# Altium footprint library 贴片电阻.PcbLib: 20 footprints (part 1 of 2)
Each footprint in its own frame and in the unit in brackets; x right, y up, seen from the top. Pads: shape width x height; smd on the part's side, far side on the other; paste and mask are expansions set on the pad; w line width, h text height; cw(c..) or ccw(c..) is an arc to the next point about the centre after c.
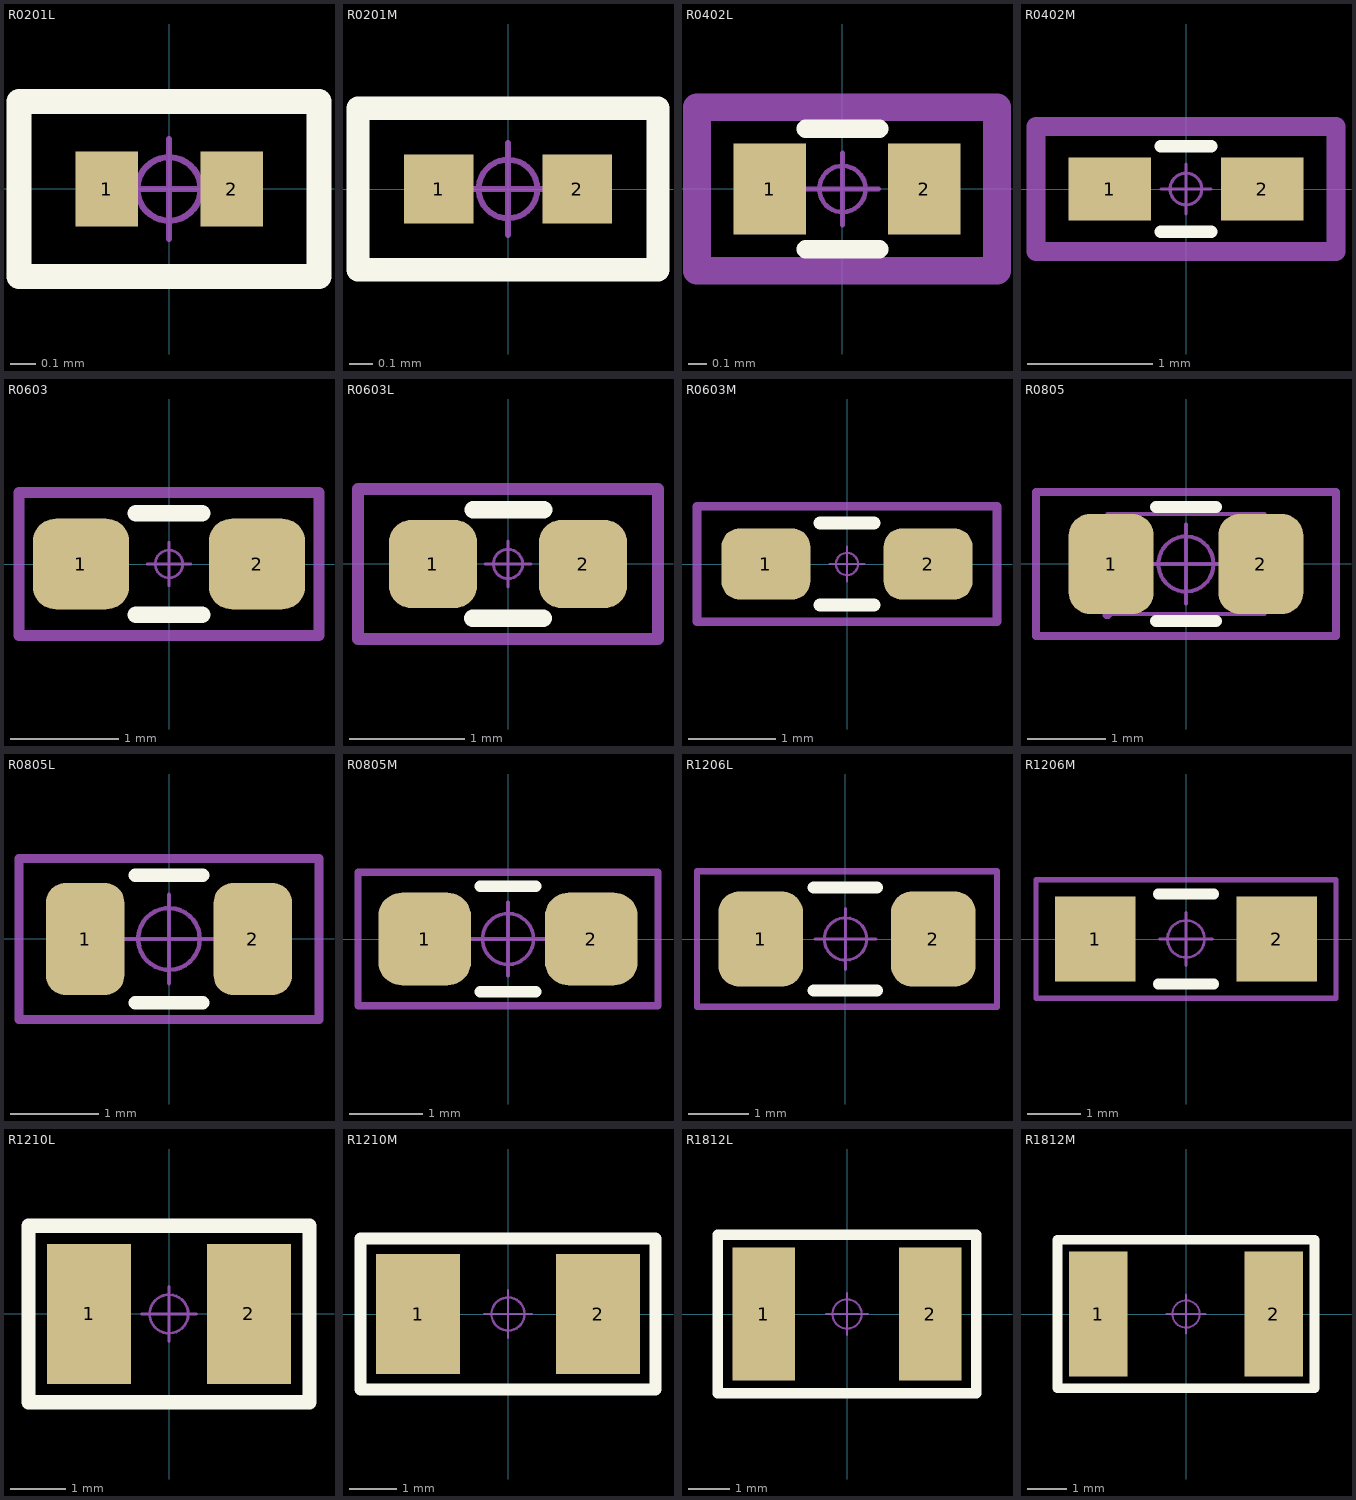
[diagram p0: the footprints below, top view; thin cyan lines are the x and y axes]

## R0201L [mm] "1/20W贴片电阻"
pads (2):
  rect 0.25x0.3 smd: 1(-0.25,0) 2(0.25,0)
Top Overlay:
  lines w0.102: -0.6,-0.35 0.6,-0.35 0.6,0.35 -0.6,0.35 -0.6,-0.35
Mechanical 15:
  circle w0.025: c0,0 r0.127
  lines w0.025: -0.2,0 0.2,0 ; 0,-0.2 0,0.2
3D body "R 0201.STEP": height 0.23, standoff 0, extent -0.3,-0.15 0.3,0.15

## R0201M [mm] "1/20W贴片电阻"
pads (2):
  rect 0.3x0.3 smd: 1(-0.3,0) 2(0.3,0)
Top Overlay:
  lines w0.102: -0.65,-0.35 0.65,-0.35 0.65,0.35 -0.65,0.35 -0.65,-0.35
Mechanical 15:
  circle w0.025: c0,0 r0.127
  lines w0.025: -0.2,0 0.2,0 ; 0,-0.2 0,0.2
3D body "R 0201.STEP": height 0.23, standoff 0, extent -0.3,-0.15 0.3,0.15

## R0402L [mm] "1/16W贴片电阻"
pads (2):
  rect 0.4x0.5 smd: 1(-0.4,0) 2(0.45,0)
Top Overlay:
  lines w0.102: -0.203,-0.33 0.203,-0.33 ; -0.203,0.33 0.203,0.33
Mechanical 6:
  lines w0.152: -0.8,-0.45 0.85,-0.45 0.85,0.45 -0.8,0.45 -0.8,-0.45
Mechanical 15:
  circle w0.025: c0,0 r0.127
  lines w0.025: -0.2,0 0.2,0 ; 0,-0.2 0,0.2
3D body "R 0402.STEP": height 0.3, standoff 0, extent -0.5,-0.25 0.5,0.25

## R0402M [mil] "1/16W贴片电阻"
pads (2):
  rect 26x20 smd: 1(-24,0) 2(24,0)
Top Overlay:
  lines w4: -8,-13.46 8,-13.46 ; -8,13.46 8,13.46
Mechanical 14:
  lines w6: -47.24,-19.68 47.24,-19.68 47.24,19.68 -47.24,19.68 -47.24,-19.68
Mechanical 15:
  circle w1: c0,0 r5
  lines w1: -7.87,0 7.87,0 ; 0,-7.87 0,7.87
3D body "R 0402.STEP": height 11.85, standoff -0.09, extent -19.68,-9.84 19.69,9.85

## R0603 [mil] "1/10W贴片电阻"
pads (2):
  rrect50% 35x33 smd: 1(-32,0) 2(32,0)
Top Overlay:
  lines w6: -12,-18.46 12,-18.46 ; -12,18.46 12,18.46
Mechanical 14:
  lines w4: -54.53,-26.01 -54.53,26.01 -16.78,26.01 16.78,26.01 54.53,26.01 54.53,-26.01 16.78,-26.01 -16.78,-26.01 -54.53,-26.01
Mechanical 15:
  circle w1: c0,0 r5
  lines w1: -7.87,0 7.87,0 ; 0,-7.87 0,7.87
3D body "R 0603.STEP": height 15.79, standoff -0.13, extent -31.49,-15.74 31.5,15.75

## R0603L [mil] "1/10W贴片电阻"
pads (2):
  rrect50% 30x30 smd: 1(-25.59,0) 2(25.59,0)
Top Overlay:
  lines w6: -12,-18.46 12,-18.46 ; -11.86,18.51 12.14,18.51
Mechanical 14:
  lines w4: -51.18,-25.59 -51.18,25.59 51.18,25.59 51.18,-25.59 -51.18,-25.59
Mechanical 15:
  circle w1: c0,0 r5
  lines w1: -7.87,0 7.87,0 ; 0,-7.87 0,7.87
3D body "R 0603.STEP": height 15.79, standoff -0.13, extent -31.49,-15.74 31.5,15.75

## R0603M [mil] "1/10W贴片电阻"
pads (2):
  rrect50% 40x32 smd: 1(-36.5,0) 2(36.5,0)
Top Overlay:
  lines w6: -12,-18.46 12,-18.46 ; -12,18.46 12,18.46
Mechanical 14:
  lines w4: -67.5,-26 -67.5,26 67.5,26 67.5,-26 -67.5,-26
Mechanical 15:
  circle w1: c0,0 r5
  lines w1: -7.87,0 7.87,0 ; 0,-7.87 0,7.87
3D body "R 0603.STEP": height 15.79, standoff -0.13, extent -31.49,-15.74 31.5,15.75

## R0805 [mil] "125mW贴片电阻"
pads (2):
  rrect50% 42.5x50 smd: 1(-37.4,0) 2(37.4,0)
Top Overlay:
  lines w6: -15,-28.46 15,-28.46 ; -15,28.46 15,28.46
Mechanical 14:
  lines w4: -66.93,-36 66.93,-36 ; -66.93,36 66.93,36 ; -75,-36 -75,36 75,36 75,-36 -75,-36
Mechanical 15:
  circle w1.97: c0,0 r13.78
  circle w1.97: c0,0 r13.78
  region: -37.01,-25.1 -37.05,-24.15 -38.42,-22.85 -40.31,-22.85 -41.68,-24.16 -41.73,-25.1 -41.68,-26.05 -40.31,-27.35 -38.42,-27.35 -37.05,-26.05
  region: 39.37,-25.1 39.37,25.1 23.62,25.1 23.62,-25.1
  region: -39.37,-25.1 -39.37,25.1 -23.62,25.1 -23.62,-25.1
  lines w1.97: -19.68,0 19.68,0 -19.68,0 ; 0,-19.68 0,19.68 0,-19.68
  lines w2: -39.37,-25.1 39.37,-25.1 39.37,25.1 -39.37,25.1 -39.37,-25.1
3D body "R 0805.STEP": height 19.72, standoff -0.24, extent -39.37,-24.6 39.37,24.61
3D body "R 0805.STEP": height 19.72, standoff -0.24, extent -39.37,-24.6 39.37,24.61

## R0805L [mil] "125mW贴片电阻"
pads (2):
  rrect50% 35x50 smd: 1(-37.4,0) 2(37.4,0)
Top Overlay:
  lines w6: -15,-28.46 15,-28.46 ; -15,28.46 15,28.46
Mechanical 14:
  lines w4: -66.93,-36 -66.93,36 66.93,36 66.93,-36 -66.93,-36
Mechanical 15:
  circle w1.97: c0,0 r13.78
  lines w1.97: -19.68,0 19.68,0 ; 0,-19.68 0,19.68
3D body "R 0805.STEP": height 19.72, standoff -0.24, extent -39.37,-24.6 39.37,24.61

## R0805M [mil] "125mW贴片电阻"
pads (2):
  rrect50% 50x50 smd: 1(-45,0) 2(45,0)
Top Overlay:
  lines w6: -15,-28.46 15,-28.46 ; -15,28.46 15,28.46
Mechanical 14:
  lines w4: -81,-36 -81,36 81,36 81,-36 -81,-36
Mechanical 15:
  circle w1.97: c0,0 r13.78
  lines w1.97: -19.68,0 19.68,0 ; 0,-19.68 0,19.68
3D body "R 0805.STEP": height 19.72, standoff -0.24, extent -39.37,-24.6 39.37,24.61

## R1206L [mil] "1/4W贴片电阻"
pads (2):
  rrect50% 55x62 smd: 1(-55.12,0) 2(57.09,0)
Top Overlay:
  lines w7.87: -20.59,-33.46 20.59,-33.46 ; -20.59,33.46 20.59,33.46
Mechanical 14:
  lines w4: -96.46,-44 98.43,-44 98.43,44 -96.46,44 -96.46,-44
Mechanical 15:
  circle w1.97: c0,0 r13.78
  lines w1.97: -19.68,0 19.68,0 ; 0,-19.68 0,19.68
3D body "R 1206.STEP": height 21.69, standoff -0.24, extent -62.99,-31.49 63,31.5

## R1206M [mil] "1/4W贴片电阻"
pads (2):
  rect 60x62.99 smd: 1(-67.5,0) 2(67.5,0)
Top Overlay:
  lines w7.87: -20.59,-33.46 20.59,-33.46 ; -20.59,33.46 20.59,33.46
Mechanical 14:
  lines w4: -111.5,-44 111.5,-44 111.5,44 -111.5,44 -111.5,-44
Mechanical 15:
  circle w1.97: c0,0 r13.78
  lines w1.97: -19.68,0 19.68,0 ; 0,-19.68 0,19.68
3D body "R 1206.STEP": height 21.69, standoff -0.24, extent -62.99,-31.49 63,31.5

## R1210L [mil] "1/3W贴片电阻"
pads (2):
  rect 60x100 smd: 1(-57.09,0) 2(57.09,0)
Top Overlay:
  lines w10: -100.39,-63 -100.39,63 100.39,63 100.39,-63 -100.39,-63
Mechanical 15:
  circle w1.97: c0,0 r13.78
  lines w1.97: -19.68,0 19.68,0 ; 0,-19.68 0,19.68
3D body "R 1210.STEP": height 21.69, standoff -0.32, extent -62.99,-49.2 63,49.22

## R1210M [mil] "1/3W贴片电阻"
pads (2):
  rect 70x100 smd: 1(-75,0) 2(75,0)
Top Overlay:
  lines w10: -123,-63 -123,63 123,63 123,-63 -123,-63
Mechanical 15:
  circle w1.97: c0,0 r13.78
  lines w1.97: -19.68,0 19.68,0 ; 0,-19.68 0,19.68
3D body "R 1210.STEP": height 21.69, standoff -0.32, extent -62.99,-49.2 63,49.22

## R1812L [mm] "1/2W贴片电阻"
pads (2):
  rect 1.5x3.2 smd: 1(-2,0) 2(2,0)
Top Overlay:
  lines w0.254: -1.27,1.905 1.016,1.905 3.1,1.905 3.1,-1.905 1.016,-1.905 -1.016,-1.905 -3.1,-1.905 -3.1,1.905 -1.016,1.905
Mechanical 15:
  circle w0.05: c0,0 r0.35
  lines w0.05: -0.5,0 0.5,0 ; 0,-0.5 0,0.5
3D body "R 1812.STEP": height 0.55, standoff -0.01, extent -2.25,-1.6 2.25,1.6

## R1812M [mm] "1/2W贴片电阻"
pads (2):
  rect 1.5x3.2 smd: 1(-2.25,0) 2(2.25,0)
Top Overlay:
  lines w0.254: -1.27,1.905 1.016,1.905 3.302,1.905 3.302,-0.508 3.302,-1.905 1.016,-1.905 -1.016,-1.905 -3.302,-1.905 -3.302,1.905 -1.016,1.905
Mechanical 15:
  circle w0.05: c0,0 r0.35
  lines w0.05: -0.5,0 0.5,0 ; 0,-0.5 0,0.5
3D body "R 1812.STEP": height 0.55, standoff -0.01, extent -2.25,-1.6 2.25,1.6